# EAGLE library part ETHERCON (library 2000dB)
http://www.neutrik.us/en-us/industrial/ethercon/a-series/ne8fah
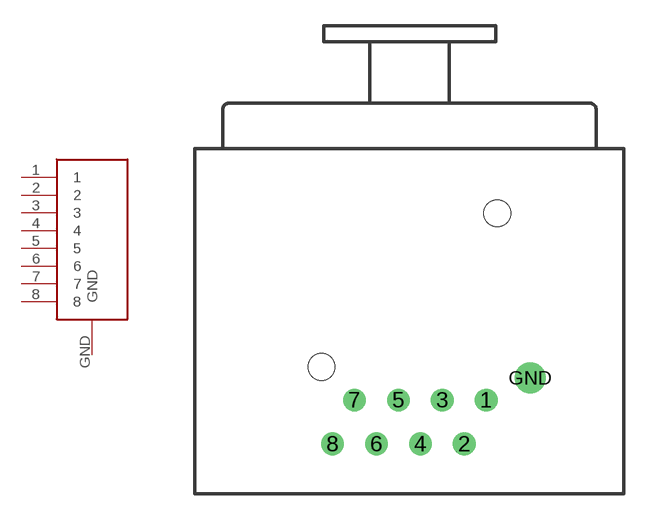
[diagram p13: symbol with the pads of NE8FAH; footprint NE8FAH]

Designator prefix -

## ETHERCONNE8FAH  [NE8FAH]
1  1
2  2
3  3
4  4
5  5
6  6
7  7
8  8
GND  GND

## Footprint NE8FAH (pad centres in mm)
drill 0.8 round: 1 4.44,0; 2 3.17,-2.54; 3 1.9,0; 4 0.63,-2.54; 5 -0.64,0; 6 -1.91,-2.54; 7 -3.18,0; 8 -4.45,-2.54
drill 1.2 round: GND 6.98,1.27
hole 1.55 at -5.08,1.91
hole 1.55 at 5.08,10.8